# EAGLE library part TXS0102DCUR (library angrypig7-IC)
2-Bit Bidirectional Voltage-Level Shifter for Open-Drain and Push-Pull Application Source: Datasheet <https://datasheet.lcsc.com/szlcsc/Texas-Instruments-TI-TXS0102DCUR_C53434.pdf>
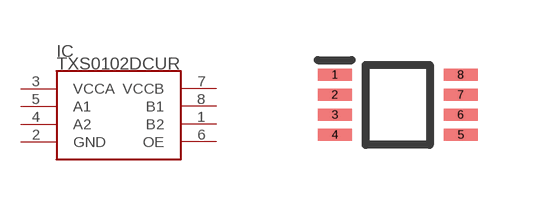
[diagram p1: symbol with the pads of US8; footprint US8]

Designator prefix IC

## TXS0102DCUR (DESCRIPTION: 2-Bit Bidirectional Voltage-Level Shifter for Open-Drain and Push-Pull Application; HEIGHT: 0.9mm; LCSC_PART_NUMBER: C53434; LCSC_PRICE-STOCK: https://lcsc.com/product-detail/Level-Translators-Shifters_Texas-Instruments_TXS0102DCUR_Texas-Instruments-Texas-Instruments-TXS0102DCUR_C53434.html; MANUFACTURER_NAME: Texas Instruments; MANUFACTURER_PART_NUMBER: TXS0102DCUR)  [US8]
1  B2
2  GND
3  VCCA
4  A2
5  A1
6  OE
7  VCCB
8  B1

## Footprint US8 (pad centres in mm)
DCU (R-PDSO-G8)
smd 0.85 x 0.3: 1 -1.575,0.75; 2 -1.575,0.25; 3 -1.575,-0.25; 4 -1.575,-0.75; 5 1.575,-0.75; 6 1.575,-0.25; 7 1.575,0.25; 8 1.575,0.75